# Altium schematic symbol library 282836-4.SchLib: 2 symbols
Pins are listed as number, name and electrical type; pins without a type are passive.

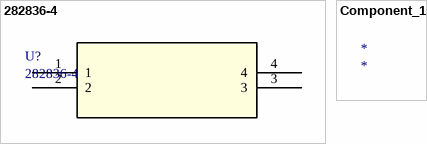
[diagram p0: symbols 282836-4 to Component_1]

## 282836-4
designator U?
No Description Available; Mfr_Name: TE Connectivity; Copyright: Copyright (C) 2022 Ultra Librarian. All rights reserved.; Manufacturer_Part_Number: 282836-4; RefDes: RefDes; Type: DEV
footprint 282836-4_TYC
pins: 1, 2, 3, 4

## Component_1
designator *